# EAGLE library part 64128G-RGB-MODULE (library jt-displays-outlines)
Displaytech 64128G-RGB module
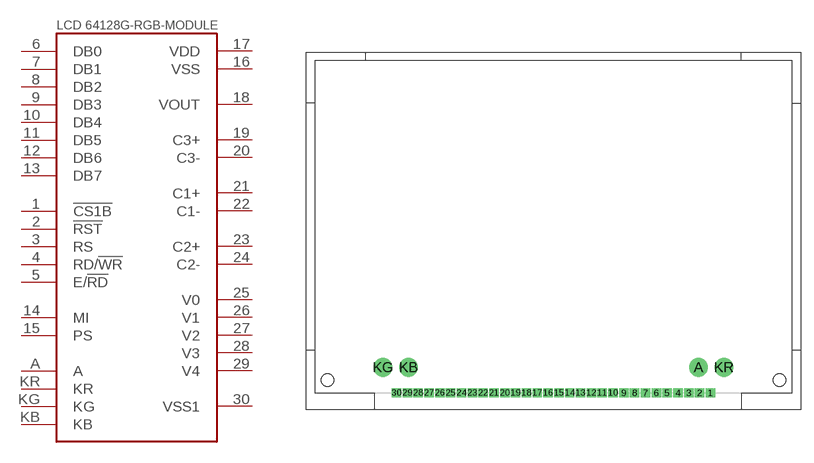
[diagram p1: symbol with the pads of 64128G-RGB-MODULE; footprint 64128G-RGB-MODULE]

Designator prefix LCD

## 64128G-RGB-MODULE  [64128G-RGB-MODULE]
1  !CS1B  in
2  !RST  in
3  RS  in
4  RD/!WR  in
5  E/!RD  in
6  DB0
7  DB1
8  DB2
9  DB3
10  DB4
11  DB5
12  DB6
13  DB7
14  MI  in
15  PS  in
16  VSS
17  VDD
18  VOUT
19  C3+
20  C3-
21  C1+
22  C1-
23  C2+
24  C2-
25  V0
26  V1
27  V2
28  V3
29  V4
30  VSS1
A  A
KB  KB
KG  KG
KR  KR

## Footprint 64128G-RGB-MODULE (pad centres in mm)
Displaytech 64128G-RGB module
drill 0.6 pad 1.016 square: 1 18.415,0; 2 17.145,0; 3 15.875,0; 4 14.605,0; 5 13.335,0; 6 12.065,0; 7 10.795,0; 8 9.525,0; 9 8.255,0; 10 6.985,0; 11 5.715,0; 12 4.445,0; 13 3.175,0; 14 1.905,0; 15 0.635,0; 16 -0.635,0; 17 -1.905,0; 18 -3.175,0; 19 -4.445,0; 20 -5.715,0; 21 -6.985,0; 22 -8.255,0; 23 -9.525,0; 24 -10.795,0; 25 -12.065,0; 26 -13.335,0; 27 -14.605,0; 28 -15.875,0; 29 -17.145,0; 30 -18.415,0
drill 0.8 pad 2.184 round: A 17,3; KB -17,3; KG -20,3; KR 20,3
hole 1.5 at -26.5,1.5
hole 1.5 at 26.5,1.5